# EAGLE library part TH8080-SOIC-8 (library TH-8080)
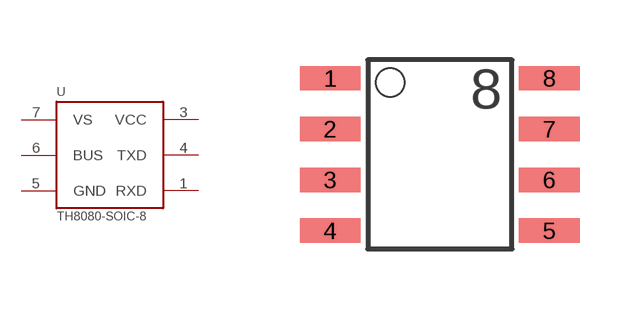
[diagram p0: symbol with the pads of SO-8; footprint SO-8]

Designator prefix -

## TH8080-SOIC-8  [SO-8]
1  RXD  out
3  VCC  pwr
4  TXD  in
5  GND  pwr
6  BUS
7  VS  pwr

## Footprint SO-8 (pad centres in mm)
SO 8 small outline
smd 1.524 x 0.61: 1 -2.743,1.27; 2 -2.743,0; 3 -2.743,-1.27; 4 -2.743,-2.54; 5 2.743,-2.54; 6 2.743,-1.27; 7 2.743,0; 8 2.743,1.27